# EAGLE library part ATSAMS70N20A-AN (library FlashPCB_ICs)
ATSAMS70N20A-AN - 32-bit Arm Cortex-M7 MCUs with FPU, Audio and Graphics Interfaces, High-Speed USB, Ethernet, and Advanced Analog Technical Specifications: up to 300 MHz LQFP144, LFBGA144,TFBGA144, UFBGA144 LQFP100,TFBGA100, VFBGA100 LQFP64,QFN64 Component Search: ATSAMS70N20A-AN <https://www.flashpcb.com/components> Datasheet: SAM E70/S70/V70/V71 Family Data Sheet <https://ww1.microchip.com/downloads/aemDocuments/documents/MCU32/ProductDocuments/DataSheets/SAM-E70-S70-V70-V71-Family-Data-Sheet-DS60001527.pdf>
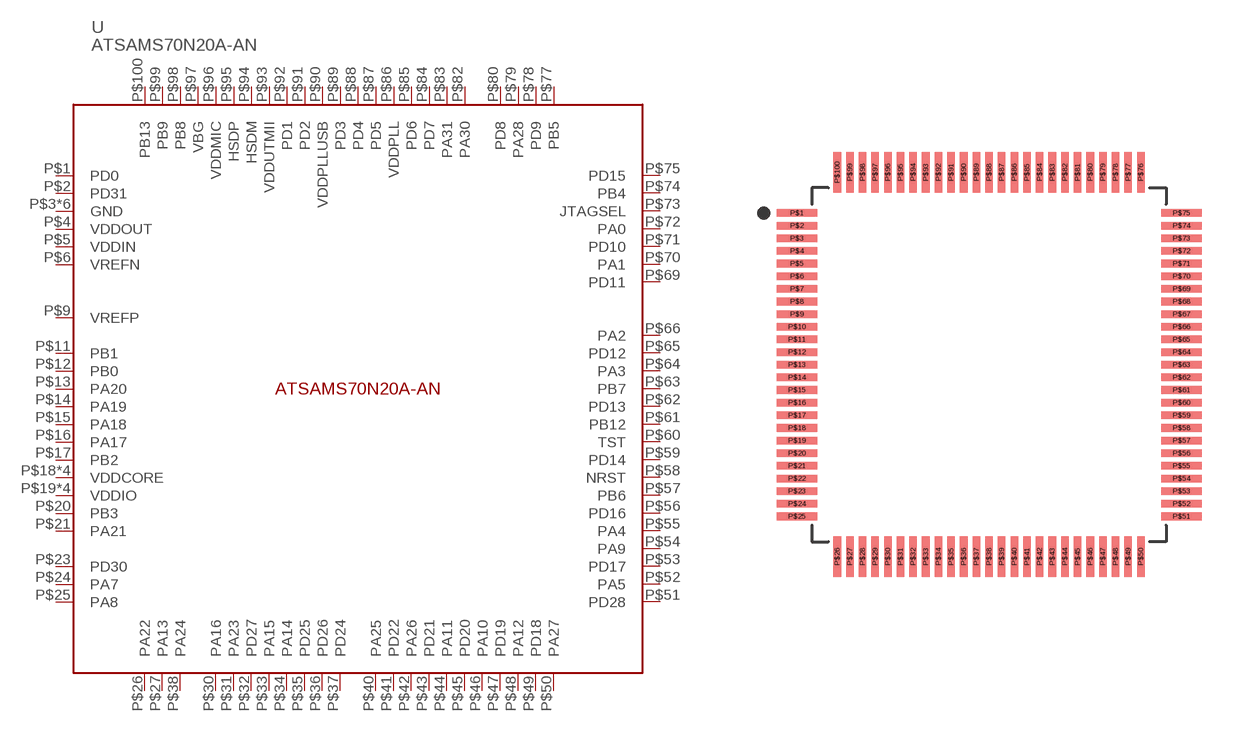
[diagram p16: symbol with the pads of 100-QFP(14X14); footprint 100-QFP(14X14)]

Designator prefix U

## ATSAMS70N20A-AN  [100-QFP(14X14)]
P$1  PD0
P$2  PD31
P$3  GND
P$4  VDDOUT
P$5  VDDIN
P$6  VREFN
P$7  GND
P$8  GND
P$9  VREFP
P$10  GND
P$11  PB1
P$12  PB0
P$13  PA20
P$14  PA19
P$15  PA18
P$16  PA17
P$17  PB2
P$18  VDDCORE
P$19  VDDIO
P$20  PB3
P$21  PA21
P$22  VDDCORE
P$23  PD30
P$24  PA7
P$25  PA8
P$26  PA22
P$27  PA13
P$28  VDDIO
P$29  GND
P$30  PA16
P$31  PA23
P$32  PD27
P$33  PA15
P$34  PA14
P$35  PD25
P$36  PD26
P$37  PD24
P$38  PA24
P$39  VDDCORE
P$40  PA25
P$41  PD22
P$42  PA26
P$43  PD21
P$44  PA11
P$45  PD20
P$46  PA10
P$47  PD19
P$48  PA12
P$49  PD18
P$50  PA27
P$51  PD28
P$52  PA5
P$53  PD17
P$54  PA9
P$55  PA4
P$56  PD16
P$57  PB6
P$58  NRST
P$59  PD14
P$60  TST
P$61  PB12
P$62  PD13
P$63  PB7
P$64  PA3
P$65  PD12
P$66  PA2
P$67  GND
P$68  VDDIO
P$69  PD11
P$70  PA1
P$71  PD10
P$72  PA0
P$73  JTAGSEL
P$74  PB4
P$75  PD15
P$76  VDDCORE
P$77  PB5
P$78  PD9
P$79  PA28
P$80  PD8
P$81  VDDIO
P$82  PA30
P$83  PA31
P$84  PD7
P$85  PD6
P$86  VDDPLL
P$87  PD5
P$88  PD4
P$89  PD3
P$90  VDDPLLUSB
P$91  PD2
P$92  PD1
P$93  VDDUTMII
P$94  HSDM
P$95  HSDP
P$96  VDDMIC
P$97  VBG
P$98  PB8
P$99  PB9
P$100  PB13

## Footprint 100-QFP(14X14) (pad centres in mm)
smd 1.6 x 0.3: P$1 -7.6,6; P$2 -7.6,5.5; P$3 -7.6,5; P$4 -7.6,4.5; P$5 -7.6,4; P$6 -7.6,3.5; P$7 -7.6,3; P$8 -7.6,2.5; P$9 -7.6,2; P$10 -7.6,1.5; P$11 -7.6,1; P$12 -7.6,0.5; P$13 -7.6,0; P$14 -7.6,-0.5; P$15 -7.6,-1; P$16 -7.6,-1.5; P$17 -7.6,-2; P$18 -7.6,-2.5; P$19 -7.6,-3; P$20 -7.6,-3.5; P$21 -7.6,-4; P$22 -7.6,-4.5; P$23 -7.6,-5; P$24 -7.6,-5.5; P$25 -7.6,-6; P$51 7.6,-6; P$52 7.6,-5.5; P$53 7.6,-5; P$54 7.6,-4.5; P$55 7.6,-4; P$56 7.6,-3.5; P$57 7.6,-3; P$58 7.6,-2.5; P$59 7.6,-2; P$60 7.6,-1.5; P$61 7.6,-1; P$62 7.6,-0.5; P$63 7.6,0; P$64 7.6,0.5; P$65 7.6,1; P$66 7.6,1.5; P$67 7.6,2; P$68 7.6,2.5; P$69 7.6,3; P$70 7.6,3.5; P$71 7.6,4; P$72 7.6,4.5; P$73 7.6,5; P$74 7.6,5.5; P$75 7.6,6
smd 0.3 x 1.6: P$26 -6,-7.6; P$27 -5.5,-7.6; P$28 -5,-7.6; P$29 -4.5,-7.6; P$30 -4,-7.6; P$31 -3.5,-7.6; P$32 -3,-7.6; P$33 -2.5,-7.6; P$34 -2,-7.6; P$35 -1.5,-7.6; P$36 -1,-7.6; P$37 -0.5,-7.6; P$38 0,-7.6; P$39 0.5,-7.6; P$40 1,-7.6; P$41 1.5,-7.6; P$42 2,-7.6; P$43 2.5,-7.6; P$44 3,-7.6; P$45 3.5,-7.6; P$46 4,-7.6; P$47 4.5,-7.6; P$48 5,-7.6; P$49 5.5,-7.6; P$50 6,-7.6; P$76 6,7.6; P$77 5.5,7.6; P$78 5,7.6; P$79 4.5,7.6; P$80 4,7.6; P$81 3.5,7.6; P$82 3,7.6; P$83 2.5,7.6; P$84 2,7.6; P$85 1.5,7.6; P$86 1,7.6; P$87 0.5,7.6; P$88 0,7.6; P$89 -0.5,7.6; P$90 -1,7.6; P$91 -1.5,7.6; P$92 -2,7.6; P$93 -2.5,7.6; P$94 -3,7.6; P$95 -3.5,7.6; P$96 -4,7.6; P$97 -4.5,7.6; P$98 -5,7.6; P$99 -5.5,7.6; P$100 -6,7.6